# Altium schematic symbol library Nosrati.SchLib: 192 symbols (part 2 of 3)
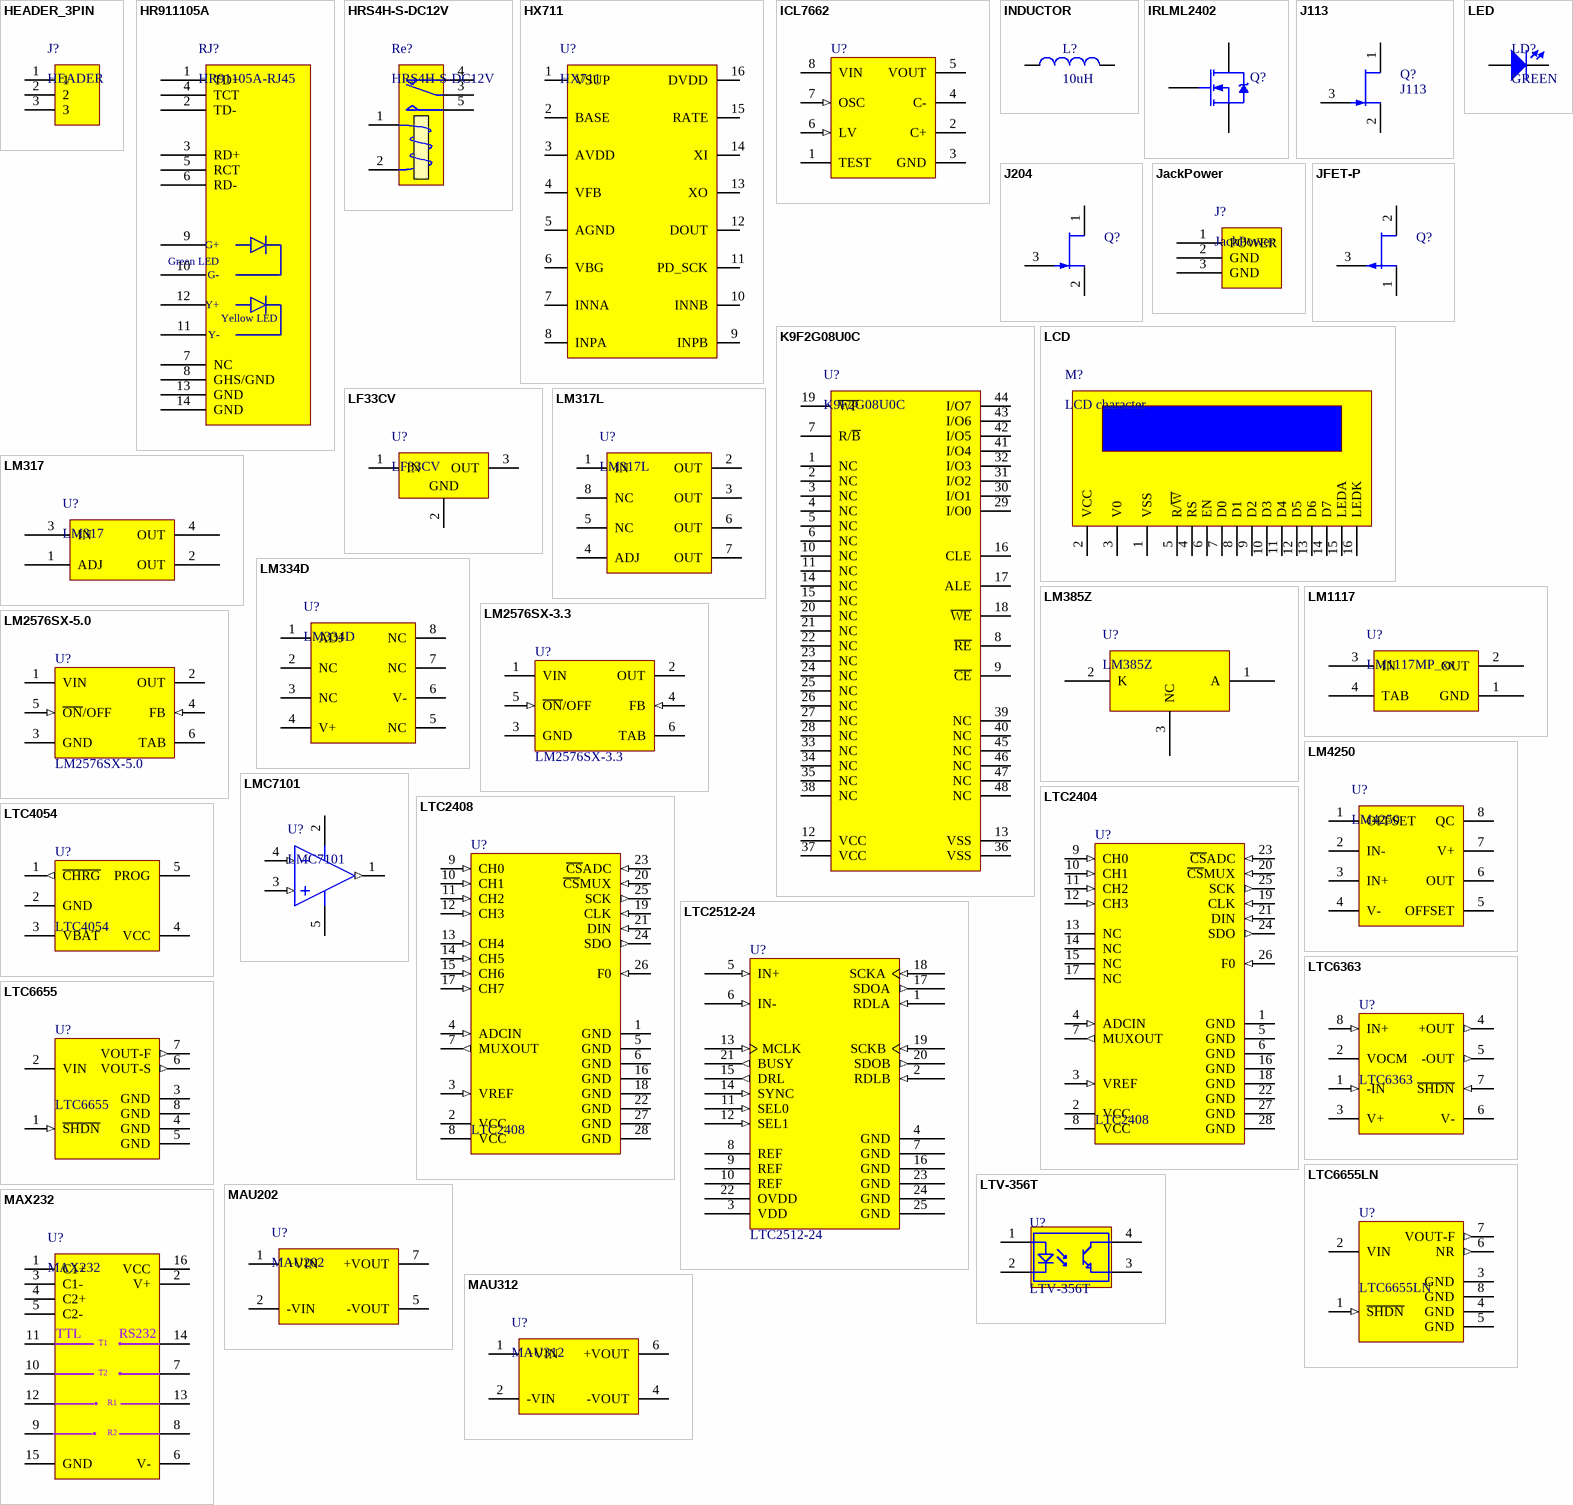
[diagram p6: symbols HEADER_3PIN to MAX232]

## LM2576SX-5.0
designator U?
SIMPLE SWITCHER® 3A Step-Down Voltage Regulator, 5-pin TO-263; Manufacturer: National Semiconductor; PackageTopMarking: NSUZXYTTE#*LM2576S*-5.0 P+; PowerWise: N; Published: 1-Mar-2010; DatasheetVersion: Aug-2004; PackageVersion: revD, Apr-2005; PackageReference: TS5B; Publisher: Altium Limited; PackageDescription: TO-263, Molded, .400 x .390 x .180in, 5 Lead, .067in Pitch, Surface Mount; PartNumber: LM2576SX-5.0; RoHS: N; PinCount: 5; CompType: Switcher; Code_JEDEC: MO-169-AB; ComponentLink1Description: LM2576 Datasheet; ComponentLink1URL: http://www.national.com/ds/LM/LM2576.pdf; ComponentLink2Description: LM2576 Web Page; ComponentLink2URL: http://www.national.com/pf/LM/LM2576.html; ComponentLink3Description: TS5B Package Page; ComponentLink3URL: http://www.national.com/packaging/folders/ts5b.html
footprint TO263_5
footprint TS5B_M
pins: 1 VIN (power), 2 OUT (power), 3 GND (power), 4 FB (in), 5 ~{ON}/OFF (in), 6 TAB (power)

## LM4250
designator U?
Programmable operational amplifier
footprint DIP8
pins: 1 OFFSET, 2 IN-, 3 IN+ (power), 4 V-, 5 OFFSET (power), 6 OUT (power), 7 V+ (power), 8 QC (power)

## LMC7101
designator U?
Tiny Low-Power Operational Amplifier / With Rail-to-Rail Input and Output; Manufacturer: Texas Instruments; PartNumber: OPA313IDBVR; CMRR(Min)(dB): 70; Eco-Plan: Green (RoHS & no Sb/Br); GBW(Typ)(MHz): 1; Iq per channel(Max)(mA): 0.06; Offset Drift(Typ)(uV/C): 2; Packing: LARGE T&R; Rating: Catalog; Slew Rate(Typ)(V/us): 0.5; SubFamily: Low Input Bias Current Amp (<=10pA), Low Power Amp (<=500uA); Total Supply Voltage(Max)(+5V is 5, +/-5V is 10): 5.5; Total Supply Voltage(Min)(+5V is 5, +/-5V is 10): 1.8; Vio (25C)(Max)(mV): 2.5; DatasheetVersion: SBOS649C; PackageVersion: 4073253-4/K, 03/2006; PackageReference: DBV5; PackageDescription: 5-Pin Plastic Small Outline, Body 1.6 x 2.9 mm, Pitch 0.95 mm; Supplier 1: Digi-Key; Supplier Part Number 1: 296-35607-2-ND; Supplier 2: Digi-Key; Supplier Part Number 2: 296-35607-1-ND; Supplier 3: Digi-Key; Supplier Part Number 3: 296-35607-6-ND; Supplier 4: Newark; Supplier Part Number 4: 55W7047; Supplier 5: Mouser; Supplier Part Number 5: 595-OPA313IDBVR; Number of Channels: 1; Mounting Technology: Surface Mount; Code_JEDEC: MO-178; ComponentLink1Description: Manufacturer URL; ComponentLink1URL: http://www.ti.com/; ComponentLink2Description: Datasheet; ComponentLink2URL: http://www.ti.com/lit/ds/symlink/opa313.pdf; ComponentLink3Description: Package Specification; ComponentLink3URL: http://www.ti.com/litv/pdf/mpds018i
footprint SOT23-5_L
footprint SOT23-5_M
footprint SOT23-5_N
pins: 1 OUT (out) "Output", 2 V+ (power) "Positive Supply", 3 IN+ (in) "Noninverting Input", 4 IN- (in) "Inverting Input", 5 V- (power) "Negative Supply"

## LTC2404
designator U?, comment LTC2408
4 Channel 24-Bit µPower / No Latency ∆ΣTM ADCs; Generic Part Number: AD7190; Manufacturer: Analog Devices; PartNumber: AD7190BRUZ; Resolution (Bits): 24; Channels: 4; Throughput Rate (SPS): 4.8K; Interface: Ser, SPI; Packing: Tube; DatasheetVersion: Rev.B; PackageVersion: 2002; PackageReference: RU-24; PackageDescription: 24-Lead Thin Shrink Small Outline Package [TSSOP]; Supplier 1: Digi-Key; Supplier Part Number 1: AD7190BRUZ-ND; Supplier 2: Farnell; Supplier Part Number 2: 2305548; Supplier 3: Newark; Supplier Part Number 3: 34P3182; Supplier 4: Mouser; Supplier Part Number 4: 584-AD7190BRUZ; RoHS: Y; Mounting Technology: Surface Mount; Code_JEDEC: MO-153-AD; ComponentLink1Description: Manufacturer URL; ComponentLink1URL: http://www.analog.com/en/index.html; ComponentLink2Description: Datasheet; ComponentLink2URL: http://www.analog.com/static/imported-files/data_sheets/AD7190.pdf; ComponentLink3Description: Package Specification; ComponentLink3URL: http://www.analog.com/static/imported-files/packages/380523655245964505593671154107510036154RU24.pdf; ComponentLink4Description: Product URL; ComponentLink4URL: http://www.analog.com/en/analog-to-digital-converters/ad-converters/ad7190/products/product.html
footprint SSOP-28_L (SOP, 28-Leads, Body 10.2x5.3mm, Pitch 0.65mm, IPC High Density)
footprint SSOP-28_M (SOP, 28-Leads, Body 10.2x5.3mm, Pitch 0.65mm, IPC Low Density)
footprint SSOP-28_N (SOP, 28-Leads, Body 10.2x5.3mm, Pitch 0.65mm, IPC Medium Density)
pins: 1 GND (power) "Ground. Should be", 2 VCC (power) "Positive Supply Voltage. 2.7V ≤ VCC ≤", 3 VREF (in) "Reference Input. The reference voltage range", 4 ADCIN (in) "Analog Input.", 5 GND (power) "Ground. Should be", 6 GND (power) "Ground. Should be", 7 MUXOUT (out) "MUX Output.", 8 VCC (power) "Positive Supply Voltage. 2.7V ≤ VCC ≤", 9 CH0 (in) "Analog Multiplexer Input.", 10 CH1 (in) "Analog Multiplexer Input.", 11 CH2 (in) "Analog Multiplexer Input.", 12 CH3 (in) "Analog Multiplexer Input.", 13 NC "No Internal Connection", 14 NC "No Internal Connection", 15 NC "No Internal Connection", 16 GND (power) "Ground. Should be", 17 NC "No Internal Connection", 18 GND (power) "Ground. Should be", 19 CLK (in) "Shift Clock for Data In.", 20 ~{CS}MUX (in) "MUX Chip Select Input.", 21 DIN (in) "Digital Data Input.", 22 GND (power) "Ground. Should be", 23 ~{CS}ADC (in) "ADC Chip Select Input.", 24 SDO (out) "Three-State Digital Output", 25 SCK (out) "Shift Clock for Data Out", 26 F0 (in) "Digital input which controls the ADC’s notch frequencies and conversion time", 27 GND (power) "Ground. Should be", 28 GND (power) "Ground. Should be"

## LTC2408
designator U?
8-Channel 24-Bit µPower / No Latency ∆ΣTM ADCs; Generic Part Number: AD7190; Manufacturer: Analog Devices; PartNumber: AD7190BRUZ; Resolution (Bits): 24; Channels: 4; Throughput Rate (SPS): 4.8K; Interface: Ser, SPI; Packing: Tube; DatasheetVersion: Rev.B; PackageVersion: 2002; PackageReference: RU-24; PackageDescription: 24-Lead Thin Shrink Small Outline Package [TSSOP]; Supplier 1: Digi-Key; Supplier Part Number 1: AD7190BRUZ-ND; Supplier 2: Farnell; Supplier Part Number 2: 2305548; Supplier 3: Newark; Supplier Part Number 3: 34P3182; Supplier 4: Mouser; Supplier Part Number 4: 584-AD7190BRUZ; RoHS: Y; Mounting Technology: Surface Mount; Code_JEDEC: MO-153-AD; ComponentLink1Description: Manufacturer URL; ComponentLink1URL: http://www.analog.com/en/index.html; ComponentLink2Description: Datasheet; ComponentLink2URL: http://www.analog.com/static/imported-files/data_sheets/AD7190.pdf; ComponentLink3Description: Package Specification; ComponentLink3URL: http://www.analog.com/static/imported-files/packages/380523655245964505593671154107510036154RU24.pdf; ComponentLink4Description: Product URL; ComponentLink4URL: http://www.analog.com/en/analog-to-digital-converters/ad-converters/ad7190/products/product.html
footprint SSOP-28_L (SOP, 28-Leads, Body 10.2x5.3mm, Pitch 0.65mm, IPC High Density)
footprint SSOP-28_M (SOP, 28-Leads, Body 10.2x5.3mm, Pitch 0.65mm, IPC Low Density)
footprint SSOP-28_N (SOP, 28-Leads, Body 10.2x5.3mm, Pitch 0.65mm, IPC Medium Density)
pins: 1 GND (power) "Ground. Should be", 2 VCC (power) "Positive Supply Voltage. 2.7V ≤ VCC ≤", 3 VREF (in) "Reference Input. The reference voltage range", 4 ADCIN (in) "Analog Input. The input voltage range is", 5 GND (power) "Ground. Should be", 6 GND (power) "Ground. Should be", 7 MUXOUT (out) "MUX Output. This pin is the output of the", 8 VCC (power) "Positive Supply Voltage. 2.7V ≤ VCC ≤", 9 CH0 (in) "Analog Multiplexer Input.", 10 CH1 (in) "Analog Multiplexer Input.", 11 CH2 (in) "Analog Multiplexer Input.", 12 CH3 (in) "Analog Multiplexer Input.", 13 CH4 (in) "Analog Multiplexer Input.", 14 CH5 (in) "Analog Multiplexer Input.", 15 CH6 (in) "Analog Multiplexer Input.", 16 GND (power) "Ground. Should be", 17 CH7 (in) "Analog Multiplexer Input.", 18 GND (power) "Ground. Should be", 19 CLK (in) "Shift Clock for Data In.", 20 ~{CS}MUX (in) "MUX Chip Select Input.", 21 DIN (in) "Digital Data Input.", 22 GND (power) "Ground. Should be", 23 ~{CS}ADC (in) "ADC Chip Select Input.", 24 SDO (out) "Three-State Digital Output", 25 SCK (out) "Shift Clock for Data Out", 26 F0 (in) "Digital input which controls the ADC’s notch frequencies and conversion time", 27 GND (power) "Ground. Should be", 28 GND (power) "Ground. Should be"

## LTC2512-24
designator U?
24-Bit Over-Sampling ADC with Configurable Flat Passband Digital Filter. SAR; Generic Part Number: AD7190; Manufacturer: Analog Devices; PartNumber: AD7190BRUZ; Resolution (Bits): 24; Channels: 4; Throughput Rate (SPS): 4.8K; Interface: Ser, SPI; Packing: Tube; DatasheetVersion: Rev.B; PackageVersion: 2002; PackageReference: RU-24; PackageDescription: 24-Lead Thin Shrink Small Outline Package [TSSOP]; Supplier 1: Digi-Key; Supplier Part Number 1: AD7190BRUZ-ND; Supplier 2: Farnell; Supplier Part Number 2: 2305548; Supplier 3: Newark; Supplier Part Number 3: 34P3182; Supplier 4: Mouser; Supplier Part Number 4: 584-AD7190BRUZ; RoHS: Y; Mounting Technology: Surface Mount; Code_JEDEC: MO-153-AD; ComponentLink1Description: Manufacturer URL; ComponentLink1URL: http://www.analog.com/en/index.html; ComponentLink2Description: Datasheet; ComponentLink2URL: http://www.analog.com/static/imported-files/data_sheets/AD7190.pdf; ComponentLink3Description: Package Specification; ComponentLink3URL: http://www.analog.com/static/imported-files/packages/380523655245964505593671154107510036154RU24.pdf; ComponentLink4Description: Product URL; ComponentLink4URL: http://www.analog.com/en/analog-to-digital-converters/ad-converters/ad7190/products/product.html
footprint DFN24 (24-Lead plastic DFN (7mm*4mm))
pins: 1 RDLA (in) "Read Low Input A (Filtered Output). RDLA:LOW -> SDOA:EN", 2 RDLB (in) "Read Low Input B (No Latency Output). RDLB:LOW -> SDOB:EN", 3 VDD (power) "2.5V Power Supply. Bypass VDD to GND with a 10μF ceramic capacitor.", 4 GND (power) "Ground.", 5 IN+ (in) "Positive Analog Input.", 6 IN- (in) "Negative Analog Input.", 7 GND (power) "Ground.", 8 REF "Reference Input. decoupled closely to the pin with a 47μF ceramic capacitor (X7R, 1210 size, 10V rating).", 9 REF "Reference Input. decoupled closely to the pin with a 47μF ceramic capacitor (X7R, 1210 size, 10V rating).", 10 REF "Reference Input. decoupled closely to the pin with a 47μF ceramic capacitor (X7R, 1210 size, 10V rating).", 11 SEL0 (in) "Down-Sampling Factor Select Input 0.", 12 SEL1 (in) "Down-Sampling Factor Select Input 1.", 13 MCLK (in) "Master Clock Input.", 14 SYNC (in) "Synchronization Input.", 15 DRL (out) "Data Ready Low Output.", 16 GND (power) "Ground.", 17 SDOA (out) "Serial Data Output A (Filtered Output).", 18 SCKA (in) "Serial Data Clock Input A (Filtered Output).", 19 SCKB (in) "Serial Data Clock Input B (No Latency Output).", 20 SDOB (out) "Serial Data Output B (No Latency Output).", 21 BUSY (out) "BUSY Indicator.", 22 OVDD (power) "I/O Interface Digital Power.", 23 GND (power) "Ground.", 24 GND (power) "Ground.", 25 GND (power) "Ground."

## LTC4054
designator U?
Standalone Linear Li-Ion Battery Charger with Thermal Regulation in  thinSOT; DatasheetVersion: revB, Nov-2002; PackageVersion: revBB, Aug-2009; PackageReference: SOIC-OA8; PackageDescription: 8-Lead Plastic Small Outline (OA) - Narrow, 3.90mm Body [SOIC]; Code_IPC: SOIC127P600-8; ComponentLink1Description: Manufacturer URL; ComponentLink1URL: http://www.microchip.com/; ComponentLink2Description: Datasheet; ComponentLink2URL: http://ww1.microchip.com/downloads/en/DeviceDoc/21465b.pdf; ComponentLink3Description: Package Specification; ComponentLink3URL: http://www.microchip.com/stellent/groups/techpub_sg/documents/packagingspec/en012702.pdf
footprint TSOT23-5_L
footprint TSOT23-5_M
footprint TSOT23-5_N
pins: 1 ~{CHRG} (out) "Open-Drain Charge Status Output.", 2 GND "Ground", 3 VBAT (power) "Charge Current Output.", 4 VCC (power) "Positive Input Supply Voltage.", 5 PROG "Charge Current Program."

## LTC6363
designator U?
Precision, Low Power Differential Amplifier/ADC Driver Family; DatasheetVersion: revB, Nov-2002; PackageVersion: revBB, Aug-2009; PackageReference: SOIC-OA8; PackageDescription: 8-Lead Plastic Small Outline (OA) - Narrow, 3.90mm Body [SOIC]; Code_IPC: SOIC127P600-8; ComponentLink1Description: Manufacturer URL; ComponentLink1URL: http://www.microchip.com/; ComponentLink2Description: Datasheet; ComponentLink2URL: http://ww1.microchip.com/downloads/en/DeviceDoc/21465b.pdf; ComponentLink3Description: Package Specification; ComponentLink3URL: http://www.microchip.com/stellent/groups/techpub_sg/documents/packagingspec/en012702.pdf
footprint MSOP-8
pins: 1 -IN (in) "Inverting Input of Amplifier.", 2 VOCM "Output Common Mode Reference Voltage.", 3 V+ (power) "Positive Power Supply.", 4 +OUT (out) "Positive Output Pin.", 5 -OUT (out) "Negative Output Pin.", 6 V- (power) "Negative Power Supply.", 7 ~{SHDN} (in) "Shutdown Input.", 8 IN+ (in) "Noninverting Input of Amplifier."

## LTC6655
designator U?
0.25ppm Noise, Low Drift Precision References; DatasheetVersion: revB, Nov-2002; PackageVersion: revBB, Aug-2009; PackageReference: SOIC-OA8; PackageDescription: 8-Lead Plastic Small Outline (OA) - Narrow, 3.90mm Body [SOIC]; Code_IPC: SOIC127P600-8; ComponentLink1Description: Manufacturer URL; ComponentLink1URL: http://www.microchip.com/; ComponentLink2Description: Datasheet; ComponentLink2URL: http://ww1.microchip.com/downloads/en/DeviceDoc/21465b.pdf; ComponentLink3Description: Package Specification; ComponentLink3URL: http://www.microchip.com/stellent/groups/techpub_sg/documents/packagingspec/en012702.pdf
footprint MSOP-8
pins: 1 ~{SHDN} (in) "Shutdown Input.", 2 VIN (power) "Power Supply.", 3 GND (power) "Internal Function.", 4 GND (power) "Device Ground.", 5 GND (power) "Internal Function.", 6 VOUT-S (out) "VOUT Sense Pin.", 7 VOUT-F (out) "V OUT Force Pin.", 8 GND (power) "Internal Function."

## LTC6655LN
designator U?
0.25ppm Noise, Low Drift Precision References; DatasheetVersion: revB, Nov-2002; PackageVersion: revBB, Aug-2009; PackageReference: SOIC-OA8; PackageDescription: 8-Lead Plastic Small Outline (OA) - Narrow, 3.90mm Body [SOIC]; Code_IPC: SOIC127P600-8; ComponentLink1Description: Manufacturer URL; ComponentLink1URL: http://www.microchip.com/; ComponentLink2Description: Datasheet; ComponentLink2URL: http://ww1.microchip.com/downloads/en/DeviceDoc/21465b.pdf; ComponentLink3Description: Package Specification; ComponentLink3URL: http://www.microchip.com/stellent/groups/techpub_sg/documents/packagingspec/en012702.pdf
footprint MSOP-8
pins: 1 ~{SHDN} (in) "Shutdown Input.", 2 VIN (power) "Power Supply.", 3 GND (power) "Internal Function.", 4 GND (power) "Device Ground.", 5 GND (power) "Internal Function.", 6 NR (out) "Noise Reduction Pin.", 7 VOUT-F (out) "V OUT  Pin.", 8 GND (power) "Internal Function."

## LTV-356T
designator U?
Transistor Output Optocouplers P/C LTV-356T; Designer: Seyed Mohsen Ghasemian; E-mail: picpars@gmail.com; Published: 17-11-2011; LatestRevisionDate: 17-11-2011; Publisher: www.picpars.com; WEB: www.picpars.com
footprint SOP-4-2.54
pins: 1 A, 2 K, 3 E, 4 C

## MAU202
designator U?
DC-DC CONVERTER 1W, SIP-Package, High Isolation; Manufacturer: Texas Instruments; PartNumber: SN65HVD230D; Eco-Plan: Green (RoHS & no Sb/Br); SubFamily: CAN; Drivers Per Package: 1; Isolated: No; Transient Pulse Protection(V): -25 to 25; Low Power Mode: Standby; ICC(Max)(mA): 17; Supply Voltage(s)(V): 3.3; Rating: Catalog; DatasheetVersion: SLOS346K; PackageVersion: revM, Jun-2011; PackageReference: D8; PackageDescription: 8-Pin Plastic Small Outline Integrated Circuit, 4.9 x 3.9 mm, Pitch 1.27 mm Pitch; Supplier 1: Digi-Key; Supplier Part Number 1: SN65HVD230D-ND; Supplier 2: Farnell; Supplier Part Number 2: 1103105; Supplier 3: Newark; Supplier Part Number 3: 75C7744; Supplier 4: Mouser; Supplier Part Number 4: 595-SN65HVD230D; Receivers Per Package: 1; Footprint: PCA82C250; Mounting Technology: Surface Mount; Code_JEDEC: MS-012AA; ComponentLink1Description: Datasheet; ComponentLink1URL: http://www.ti.com/general/docs/lit/getliterature.tsp?genericPartNumber=SN65HVD230&fileType=pdf
footprint SIP7 (4) 5V&12V IN (MAU200)
pins: 1 +VIN, 2 -VIN, 5 -VOUT, 7 +VOUT

## MAU312
designator U?
DC-DC CONVERTER 2W, SIP-Package, High Isolation; Manufacturer: Texas Instruments; PartNumber: SN65HVD230D; Eco-Plan: Green (RoHS & no Sb/Br); SubFamily: CAN; Drivers Per Package: 1; Isolated: No; Transient Pulse Protection(V): -25 to 25; Low Power Mode: Standby; ICC(Max)(mA): 17; Supply Voltage(s)(V): 3.3; Rating: Catalog; DatasheetVersion: SLOS346K; PackageVersion: revM, Jun-2011; PackageReference: D8; PackageDescription: 8-Pin Plastic Small Outline Integrated Circuit, 4.9 x 3.9 mm, Pitch 1.27 mm Pitch; Supplier 1: Digi-Key; Supplier Part Number 1: SN65HVD230D-ND; Supplier 2: Farnell; Supplier Part Number 2: 1103105; Supplier 3: Newark; Supplier Part Number 3: 75C7744; Supplier 4: Mouser; Supplier Part Number 4: 595-SN65HVD230D; Receivers Per Package: 1; Footprint: PCA82C250; Mounting Technology: Surface Mount; Code_JEDEC: MS-012AA; ComponentLink1Description: Datasheet; ComponentLink1URL: http://www.ti.com/general/docs/lit/getliterature.tsp?genericPartNumber=SN65HVD230&fileType=pdf
footprint SIP7 (4) 5V&12V IN (MAU300)
pins: 1 +VIN, 2 -VIN, 4 -VOUT, 6 +VOUT

## MAX232
designator U?
+5V Powered, Multi-Channel RS-232 Driver/Receiver; ComponentAuthor: Saeid Jorablo; ComponentLink1Description: Datasheet; ComponentLink1URL: http://pdfserv.maxim-ic.com/en/ds/MAX220-MAX249.pdf
footprint SOP-16
footprint SOIC16_L (SOIC, 16-Leads, Body 9.9x3.9mm, Pitch 1.27mm)
footprint SOIC16_M (SOIC, 16-Leads, Body 9.9x3.9mm, Pitch 1.27mm)
footprint SOIC16_N (SOIC, 16-Leads, Body 9.9x3.9mm, Pitch 1.27mm)
pins: 1 C1+ "Positive lead of C1 capacitor", 2 V+ "Positive charge pump output for storage capacitor only", 3 C1- "Negative lead of C1 capacitor", 4 C2+ "Positive lead of C2 capacitor", 5 C2- "Negative lead of C2 capacitor", 6 V- "Negative charge pump output for storage capacitor only", 7 T2OUT "RS232 line data output (to remote RS232 system)", 8 R2IN "RS232 line data input (from remote RS232 system)", 9 R2OUT "Logic data output (to UART)", 10 T2IN "Logic data input (from UART)", 11 T1IN "Logic data input (from UART)", 12 R1OUT "Logic data output (to UART)", 13 R1IN "RS232 line data input (from remote RS232 system)", 14 T1OUT "RS232 line data output (to remote RS232 system)", 15 GND (power) "Ground", 16 VCC (power) "Supply Voltage, Connect to external 5V power supply"
text: TTL; RS232; T1; T2; R1; R2

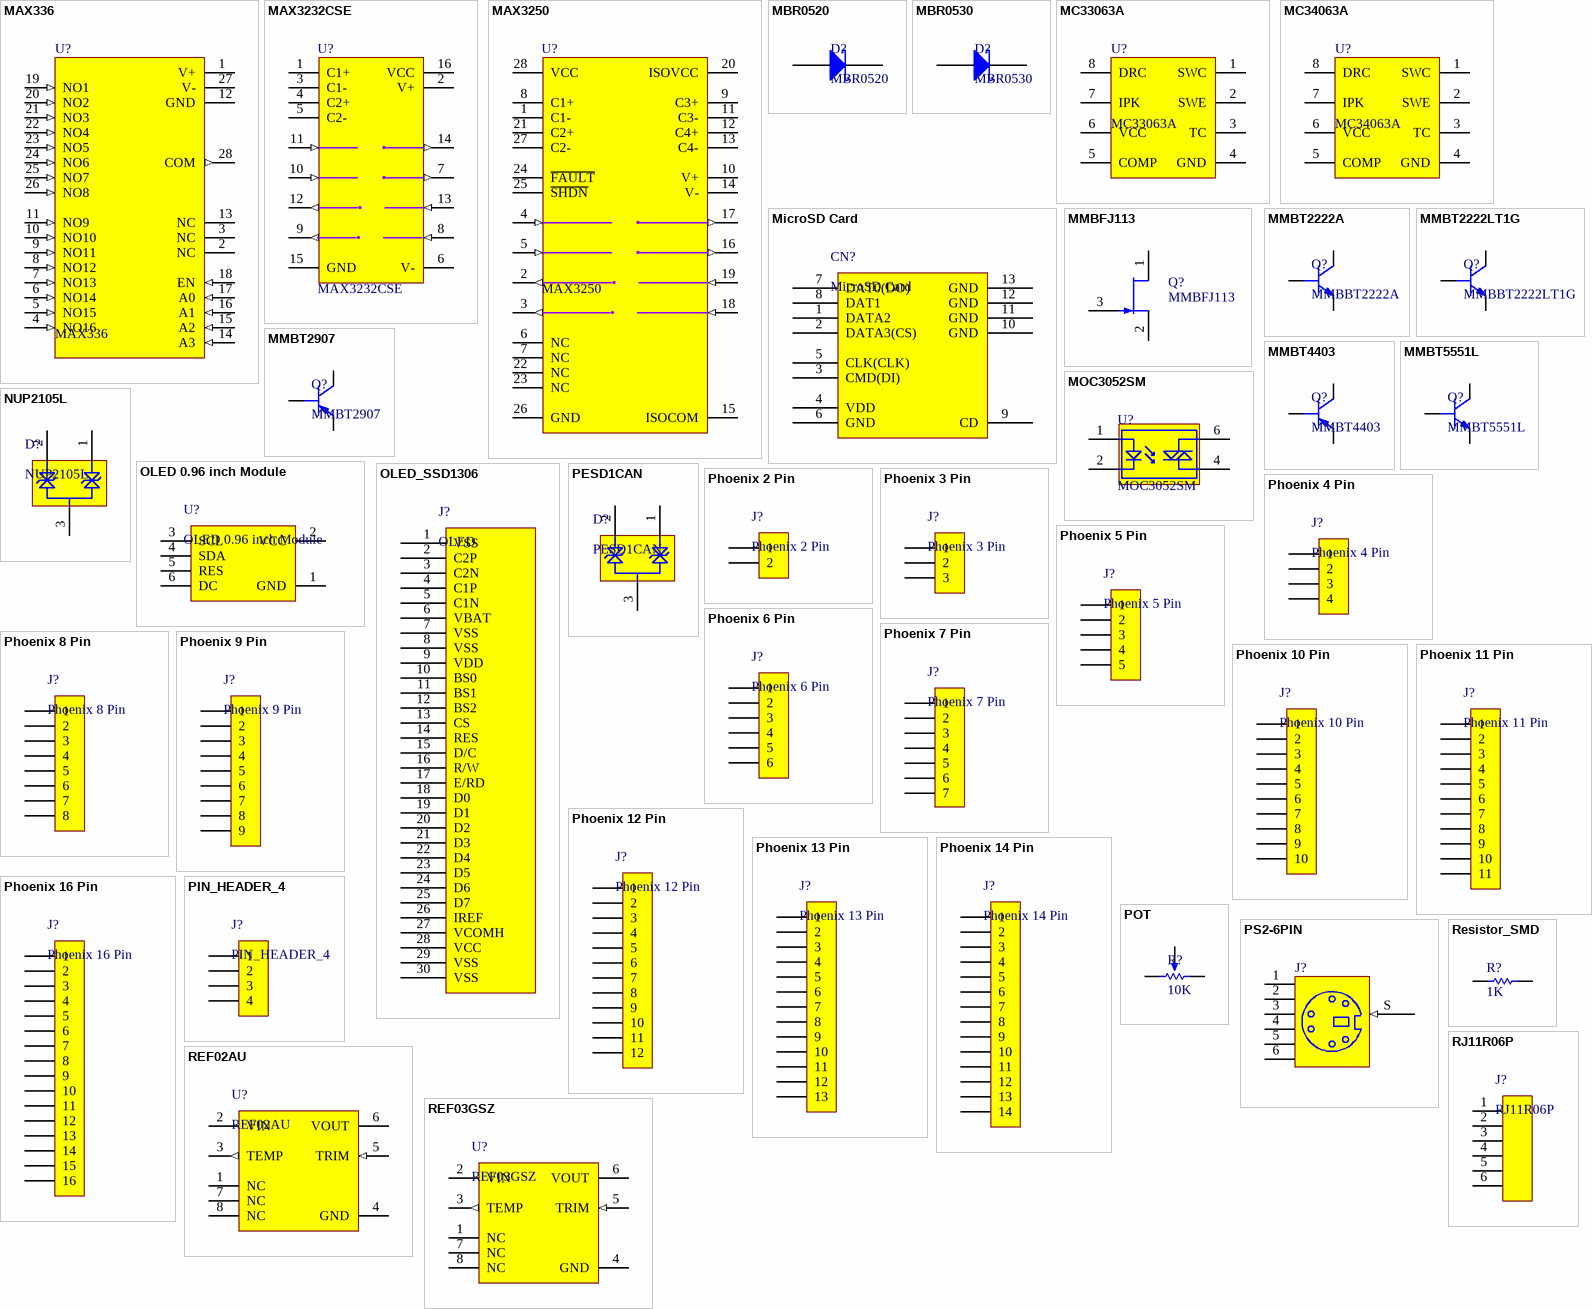
[diagram p3: symbols MAX336 to RJ11R06P]

## MAX336
designator U?
16-Channel/Dual 8-Channel, / Low-Leakage, CMOS Analog Multiplexers; Generic Part Number: AD7190; Manufacturer: Analog Devices; PartNumber: AD7190BRUZ; Resolution (Bits): 24; Channels: 4; Throughput Rate (SPS): 4.8K; Interface: Ser, SPI; Packing: Tube; DatasheetVersion: Rev.B; PackageVersion: 2002; PackageReference: RU-24; PackageDescription: 24-Lead Thin Shrink Small Outline Package [TSSOP]; Supplier 1: Digi-Key; Supplier Part Number 1: AD7190BRUZ-ND; Supplier 2: Farnell; Supplier Part Number 2: 2305548; Supplier 3: Newark; Supplier Part Number 3: 34P3182; Supplier 4: Mouser; Supplier Part Number 4: 584-AD7190BRUZ; RoHS: Y; Mounting Technology: Surface Mount; Code_JEDEC: MO-153-AD; ComponentLink1Description: Manufacturer URL; ComponentLink1URL: http://www.analog.com/en/index.html; ComponentLink2Description: Datasheet; ComponentLink2URL: http://www.analog.com/static/imported-files/data_sheets/AD7190.pdf; ComponentLink3Description: Package Specification; ComponentLink3URL: http://www.analog.com/static/imported-files/packages/380523655245964505593671154107510036154RU24.pdf; ComponentLink4Description: Product URL; ComponentLink4URL: http://www.analog.com/en/analog-to-digital-converters/ad-converters/ad7190/products/product.html
footprint SSOP-28_L (SOP, 28-Leads, Body 10.2x5.3mm, Pitch 0.65mm, IPC High Density)
footprint SSOP-28_M (SOP, 28-Leads, Body 10.2x5.3mm, Pitch 0.65mm, IPC Low Density)
footprint SSOP-28_N (SOP, 28-Leads, Body 10.2x5.3mm, Pitch 0.65mm, IPC Medium Density)
pins: 1 V+ (power) "Positive Supply-Voltage Input", 2 NC "No Internal Connection", 3 NC "No Internal Connection", 4 NO16 (in) "Analog Signal Inputs", 5 NO15 (in) "Analog Signal Inputs", 6 NO14 (in) "Analog Signal Inputs", 7 NO13 (in) "Analog Signal Inputs", 8 NO12 (in) "Analog Signal Inputs", 9 NO11 (in) "Analog Signal Inputs", 10 NO10 (in) "Analog Signal Inputs", 11 NO9 (in) "Analog Signal Inputs", 12 GND (power) "Analog Input. It can be configured as the negative input of a fully differential input pair when used with AIN1 or as a pseudo differential input when used with AINCOM.", 13 NC "No Internal Connection", 14 A3 (in) "Logic Address Input", 15 A2 (in) "Logic Address Input", 16 A1 (in) "Logic Address Input", 17 A0 (in) "Logic Address Input", 18 EN (in) "Logic Enable Input", 19 NO1 (in) "Analog Signal Inputs", 20 NO2 (in) "Analog Signal Inputs", 21 NO3 (in) "Analog Signal Inputs", 22 NO4 (in) "Analog Signal Inputs", 23 NO5 (in) "Analog Signal Inputs", 24 NO6 (in) "Analog Signal Inputs", 25 NO7 (in) "Analog Signal Inputs", 26 NO8 (in) "Analog Signal Inputs", 27 V- (power) "Negative Supply-Voltage Input (Connect to GND for single supply operation)", 28 COM (out) "Analog Signal Output"

## MAX3232CSE
designator U?
3.0V TO 5.5V, Low-Power, up to 1Mbps, True RS-232 Transceiver Using Four 0.1µF External Capacitor; Published: 16-Jan-2001; LatestRevisionDate: 13-Apr-2006; LatestRevisionNote: IPC-7351 Footprint Added.; DatasheetVersion: Mar-1999; PackageReference: NSO16; Publisher: Altium Limited; PackageDescription: 16-Pin Small Outline Integrated Circuit 1.27 mm Pitch; Code_JEDEC: MS-012-AC; Code_IPC: SOIC127P600-16; ComponentLink1Description: Manufacturer Link; ComponentLink1URL: http://www.maxim-ic.com/; ComponentLink2Description: Datasheet; ComponentLink2URL: http://pdfserv.maxim-ic.com/en/ds/MAX3222-MAX3241.pdf
footprint SOIC16_M (SOIC, 16-Leads, Body 9.9x3.9mm, Pitch 1.27mm)
footprint SOIC16_N (SOIC, 16-Leads, Body 9.9x3.9mm, Pitch 1.27mm)
footprint SOIC16_L (SOIC, 16-Leads, Body 9.9x3.9mm, Pitch 1.27mm)
pins: 1 C1+, 2 V+ (power), 3 C1-, 4 C2+, 5 C2-, 6 V- (power), 7 T2OUT (out), 8 R2IN (in), 9 R2OUT (out), 10 T2IN (in), 11 T1IN (in), 12 R1OUT (out), 13 R1IN (in), 14 T1OUT (out), 15 GND (power), 16 VCC (power)

## MAX3250
designator U?
±50V Isolated, 3.0V to .5V, 250kbps, 2 Tx/2 Rx, RS-232 Transceiver; Published: 16-Jan-2001; LatestRevisionDate: 13-Apr-2006; LatestRevisionNote: IPC-7351 Footprint Added.; DatasheetVersion: Mar-1999; PackageReference: NSO16; Publisher: Altium Limited; PackageDescription: 16-Pin Small Outline Integrated Circuit 1.27 mm Pitch; Code_JEDEC: MS-012-AC; Code_IPC: SOIC127P600-16; ComponentLink1Description: Manufacturer Link; ComponentLink1URL: http://www.maxim-ic.com/; ComponentLink2Description: Datasheet; ComponentLink2URL: http://pdfserv.maxim-ic.com/en/ds/MAX3222-MAX3241.pdf
footprint SSOP-28_L (SOP, 28-Leads, Body 10.2x5.3mm, Pitch 0.65mm, IPC High Density)
footprint SSOP-28_M (SOP, 28-Leads, Body 10.2x5.3mm, Pitch 0.65mm, IPC Low Density)
footprint SSOP-28_N (SOP, 28-Leads, Body 10.2x5.3mm, Pitch 0.65mm, IPC Medium Density)
pins: 1 C1- "Negative Terminal of the Power Isolation Capacitor.  Connect a 100V capacitor from C1- to C1+.", 2 R1OUT (out) "TTL/CMOS Receiver Output", 3 R2OUT (out) "TTL/CMOS Receiver Output", 4 T1IN (in) "TTL/CMOS Transmitter Input", 5 T2IN (in) "TTL/CMOS Transmitter Input", 6 NC "No Connection. Not internally connected.", 7 NC "No Connection. Leave unconnected or connect to ISOCOM.", 8 C1+ "Positive Terminal of the Power Isolation Capacitor. Connect a 100V capacitor from C1+ to C1-.", 9 C3+ "Positive Terminal of the Voltage-Doubler Charge-Pump Capacitor. Connect a 0.1µF capacitor from C3+ to C3-.", 10 V+ (power) "+5.5V Generated by the Charge Pump, Referenced to ISOCOM. Bypass V+ to ISOCOM with a 0.47µF capacitor.", 11 C3- "Negative Terminal of the Voltage-Doubler Charge-Pump Capacitor. Connect a 0.1µF capacitor from C3- to C3+.", 12 C4+ "Positive Terminal of the Inverting Charge-Pump Capacitor. Connect a 0.47µF capacitor from C4+ to C4-.", 13 C4- "Negative Terminal of the Inverting Charge-Pump Capacitor. Connect a 0.47µF capacitor from C4- to C4+.", 14 V- (power) "-5.5V Generated by the Charge Pump, Referenced to ISOCOM. Bypass V- to ISOCOM with a 0.47µF capacitor.", 15 ISOCOM (power) "Isolated Ground", 16 T2OUT (out) "RS-232 Transmitter Output", 17 T1OUT (out) "RS-232 Transmitter Output", 18 R2IN (in) "RS-232 Receiver Input", 19 R1IN (in) "RS-232 Receiver Input", 20 ISOVCC (power) "Internally Generated Isolated Power-Supply Voltage, Referenced to ISOCOM. Bypass ISOVCC to ISOCOM with a 2.2µF capacitor.", 21 C2+ "Positive Terminal of the Power Isolation Capacitor. Connect a 100V capacitor from C2+ to C2-.", 22 NC "No Connection. Not internally connected.", 23 NC "No Connection. Not internally connected.", 24 ~{FAULT} "Overvoltage Indicator. Active low, open drain.", 25 ~{SHDN} "Shutdown Control. Drive SHDN low to enter low-power shutdown mode. Drive SHDN high or connect to VCC for normal operation.", 26 GND (power) "Ground.", 27 C2- "Negative Terminal of the Power Isolation Capacitor. Connect a 100V capacitor from C2- to C2+.", 28 VCC (power) "3.0V to 5.5V Supply Voltage. Bypass VCC to GND with a 1µF capacitor."

## MBR0520
designator D?
footprint SOD-123
pins: 1 A, 2 K

## MBR0530
designator D?
footprint SOD-123
pins: 1 A, 2 K

## MC33063A
designator U?
Inverting Regulator - Buck,  Boost, Switching, 1.5A , −40 to +125 /; DatasheetVersion: revB, Nov-2002; PackageVersion: revBB, Aug-2009; PackageReference: SOIC-OA8; PackageDescription: 8-Lead Plastic Small Outline (OA) - Narrow, 3.90mm Body [SOIC]; Code_IPC: SOIC127P600-8; ComponentLink1Description: Manufacturer URL; ComponentLink1URL: http://www.microchip.com/; ComponentLink2Description: Datasheet; ComponentLink2URL: http://ww1.microchip.com/downloads/en/DeviceDoc/21465b.pdf; ComponentLink3Description: Package Specification; ComponentLink3URL: http://www.microchip.com/stellent/groups/techpub_sg/documents/packagingspec/en012702.pdf
footprint SOIC8_N (SOIC, 8-Leads, Body 4.9x3.9mm, Pitch 1.27mm, IPC Medium Density)
footprint SOIC8_M (SOIC, 8-Leads, Body 4.9x3.9mm, Pitch 1.27mm, IPC Low Density)
footprint SOIC8
footprint SOIC8_L (SOIC, 8-Leads, Body 4.9x3.9mm, Pitch 1.27mm, IPC High Density)
pins: 1 SWC "Switch Collector.", 2 SWE "Switch EmitTer", 3 TC "Timing Capacitor", 4 GND (power) "Ground", 5 COMP "Comparator Inverting Input", 6 VCC (power), 7 IPK "Ipk Sense", 8 DRC "Drive Collector"

## MC34063A
designator U?
Inverting Regulator - Buck,  Boost, Switching, 1.5A , 0 to +70; DatasheetVersion: revB, Nov-2002; PackageVersion: revBB, Aug-2009; PackageReference: SOIC-OA8; PackageDescription: 8-Lead Plastic Small Outline (OA) - Narrow, 3.90mm Body [SOIC]; Code_IPC: SOIC127P600-8; ComponentLink1Description: Manufacturer URL; ComponentLink1URL: http://www.microchip.com/; ComponentLink2Description: Datasheet; ComponentLink2URL: http://ww1.microchip.com/downloads/en/DeviceDoc/21465b.pdf; ComponentLink3Description: Package Specification; ComponentLink3URL: http://www.microchip.com/stellent/groups/techpub_sg/documents/packagingspec/en012702.pdf
footprint SOIC8_N (SOIC, 8-Leads, Body 4.9x3.9mm, Pitch 1.27mm, IPC Medium Density)
footprint SOIC8_M (SOIC, 8-Leads, Body 4.9x3.9mm, Pitch 1.27mm, IPC Low Density)
footprint SOIC8
footprint SOIC8_L (SOIC, 8-Leads, Body 4.9x3.9mm, Pitch 1.27mm, IPC High Density)
pins: 1 SWC "Switch Collector.", 2 SWE "Switch EmitTer", 3 TC "Timing Capacitor", 4 GND (power) "Ground", 5 COMP "Comparator Inverting Input", 6 VCC (power), 7 IPK "Ipk Sense", 8 DRC "Drive Collector"

## MicroSD Card
designator CN?
footprint Micro-SD-Card
pins: 1 DATA2, 2 DATA3(CS), 3 CMD(DI), 4 VDD, 5 CLK(CLK), 6 GND, 7 DAT0(DO), 8 DAT1, 9 CD, 10 GND, 11 GND, 12 GND, 13 GND

## MMBFJ113
designator Q?
N-Channel JFET - 35V, 50mA; Published: 8-Jun-2000; LatestRevisionDate: 17-Jul-2002; LatestRevisionNote: Re-released for DXP Platform.; PackageReference: TO-254-AA; Publisher: Altium Limited; Code_JEDEC: TO-254-AA
footprint SOT23_N
footprint SOT23_M
footprint SOT23_L
pins: 1 D, 2 S, 3 G

## MMBT2222A
designator Q?, comment MMBBT2222A
General Purpose Transistors
footprint SOT23_M
footprint SOT23_L
footprint SOT23_N
pins: 1 BASE, 2 EMITTER, 3 COLLECTOR

## MMBT2222LT1G
designator Q?, comment MMBBT2222LT1G
General Purpose Transistor
footprint SOT23_M
footprint SOT23_L
footprint SOT23_N
pins: 1 BASE, 2 EMITTER, 3 COLLECTOR

## MMBT2907
designator Q?
PNP General-Purpose Amplifier -  0.6A/60V
footprint SOT23_L
footprint SOT23_M
footprint SOT23_N
pins: 1 BASE, 2 EMITTER, 3 COLLECTOR

## MMBT4403
designator Q?
PNP General-Purpose Amplifier -  0.6A/40V
footprint SOT23_L
footprint SOT23_M
footprint SOT23_N
pins: 1 BASE, 2 EMITTER, 3 COLLECTOR

## MMBT5551L
designator Q?
High Voltage Transistors NPN Silicon
footprint SOT23_L
footprint SOT23_M
footprint SOT23_N
pins: 1 BASE, 2 EMITTER, 3 COLLECTOR

## MOC3052SM
designator U?
Triac & SCR Output Optocouplers 600V Optocoupler Random Phase Triac; Designer: Seyed Mohsen Ghasemian; E-mail: picpars@gmail.com; Published: 17-11-2011; LatestRevisionDate: 17-11-2011; Publisher: www.picpars.com; WEB: www.picpars.com
footprint DIP6-SMD
footprint DIP6
pins: 1 ANODE, 2 CATHODE, 4 MAIN TERM, 6 MAIN TERM

## NUP2105L
designator D?
27 V ESD Protection Diode / Dual Line CAN Bus Protector
footprint SOT23_M
footprint SOT23_N
footprint SOT23_L
pins: 1, 2, 3

## OLED 0.96 inch Module
designator U?
footprint OLED 0.96 inch Module
pins: 1 GND, 2 VCC, 3 SCL, 4 SDA, 5 RES, 6 DC

## OLED_SSD1306
designator J?, comment OLED
footprint OLED_SSD1306_0.96INCH (0.96 inch)
footprint OLED_SSD1306_1.3INCH (1.3 inch)
pins: 1 VSS, 2 C2P, 3 C2N, 4 C1P, 5 C1N, 6 VBAT, 7 VSS, 8 VSS, 9 VDD, 10 BS0, 11 BS1, 12 BS2, 13 CS, 14 RES, 15 D/C, 16 R/W, 17 E/RD, 18 D0, 19 D1, 20 D2, 21 D3, 22 D4, 23 D5, 24 D6, 25 D7, 26 IREF, 27 VCOMH, 28 VCC, 29 VSS, 30 VSS

## PESD1CAN
designator D?
CAN bus ESD protection diode
footprint SOT23_M
footprint SOT23_N
footprint SOT23_L
pins: 1, 2, 3

## Phoenix 2 Pin
designator J?
footprint Phoenix 2 Pin 3.81mm
footprint Phoenix 2 Pin 3.81mm R
footprint Phoenix 2 Pin 3.81mm V
footprint Phoenix 2 Pin 5.08mm V
footprint Phoenix 2 Pin 5.08mm R
pins: 1, 2

## Phoenix 3 Pin
designator J?
footprint Phoenix 3 Pin 3.81mm R
footprint Phoenix 3 Pin 3.81mm V
footprint Phoenix 3 Pin 5.08mm R
pins: 1, 2, 3

## Phoenix 4 Pin
designator J?
footprint Phoenix 4 Pin 3.81mm R
footprint Phoenix 4 Pin 3.81mm V
footprint Phoenix 4 Pin 5.08mm R
footprint Phoenix 4 Pin 5.08mm V
pins: 1, 2, 3, 4

## Phoenix 5 Pin
designator J?
footprint Phoenix 5 Pin 3.81mm R
footprint Phoenix 5 Pin 3.81mm V
footprint Phoenix 5 Pin 5.08mm R
pins: 1, 2, 3, 4, 5

## Phoenix 6 Pin
designator J?
footprint Phoenix 6 Pin 3.81mm R
footprint Phoenix 6 Pin 3.81mm V
pins: 1, 2, 3, 4, 5, 6

## Phoenix 7 Pin
designator J?
footprint Phoenix 7 Pin 3.81mm R
footprint Phoenix 7 Pin 3.81mm V
pins: 1, 2, 3, 4, 5, 6, 7

## Phoenix 8 Pin
designator J?
footprint Phoenix 8 Pin 3.81mm R
pins: 1, 2, 3, 4, 5, 6, 7, 8

## Phoenix 9 Pin
designator J?
footprint Phoenix 9 Pin 3.81mm
footprint Phoenix 9 Pin 3.81mm R
footprint Phoenix 9 Pin 3.81mm V
pins: 1, 2, 3, 4, 5, 6, 7, 8, 9

## Phoenix 10 Pin
designator J?
footprint Phoenix 10 Pin 3.81mm R
footprint Phoenix 10 Pin 3.81mm V
pins: 1, 2, 3, 4, 5, 6, 7, 8, 9, 10

## Phoenix 11 Pin
designator J?
footprint Phoenix 11 Pin 3.81mm R
footprint Phoenix 11 Pin 3.81mm V
pins: 1, 2, 3, 4, 5, 6, 7, 8, 9, 10, 11

## Phoenix 12 Pin
designator J?
footprint Phoenix 12 Pin 3.81mm R
footprint Phoenix 12 Pin 3.81mm V
pins: 1, 2, 3, 4, 5, 6, 7, 8, 9, 10, 11, 12

## Phoenix 13 Pin
designator J?
footprint Phoenix 13 Pin 3.81mm V
pins: 1, 2, 3, 4, 5, 6, 7, 8, 9, 10, 11, 12, 13

## Phoenix 14 Pin
designator J?
footprint Phoenix 14 Pin 3.81mm R
footprint Phoenix 14 Pin 3.81mm V
pins: 1, 2, 3, 4, 5, 6, 7, 8, 9, 10, 11, 12, 13, 14

## Phoenix 16 Pin
designator J?
footprint Phoenix 16 Pin 3.81mm V
pins: 1, 2, 3, 4, 5, 6, 7, 8, 9, 10, 11, 12, 13, 14, 15, 16

## PIN_HEADER_4
designator J?
footprint HDR1X4 (Connector; Header; 4 Position)
pins: 1, 2, 3, 4

## POT
designator R?, comment 10K
Value: 10K
footprint POT_TH_S
pins: 1, 2, 3

## PS2-6PIN
designator J?
Connector 6 Pin Through Hole PS2 Socket (Kycon P/N); Published: 17-Dec-2003; Publisher: Altium Limited; ComponentLink1Description: Manufacturer Link; ComponentLink1URL: http://www.oupiin.com/prodindx.html#Headers
footprint PS2-6PIN (PS2 Socket, 6 Pin, Through Hole)
pins: 1, 2, 3, 4, 5, 6, S (in)

## REF02AU
designator U?
Precision Voltage Reference, 5 V Output, 7 to 36 V Supply, Military,; Manufacturer: Analog Devices; PartNumber: REF02AZ; Max V Supply (V): 36; Packing: Tube; Min V Supply (V): 7; Ref Out TC (ppm/C): 3; Vout: 5V; DatasheetVersion: Rev. K; PackageVersion: Aug-05; PackageReference: Q-8; PackageDescription: 8-Pin Ceramic Dual In-Line Package, Row spacing 7.62 mm, Pitch 2.54 mm; Supplier 1: Digi-Key; Supplier Part Number 1: REF02AZ-ND; Supplier 2: Mouser; Supplier Part Number 2: 584-REF02AZ; Operating Temp Range: -55 to 125 degC; Mounting Technology: Through Hole; ComponentLink1Description: Manufacturer URL; ComponentLink1URL: http://www.analog.com/en/index.html; ComponentLink2Description: Datasheet; ComponentLink2URL: http://www.analog.com/static/imported-files/data_sheets/REF01_02_03.pdf; ComponentLink3Description: Package Specification; ComponentLink3URL: http://www.analog.com/static/imported-files/packages/3925655241313314758Q_8.pdf; ComponentLink4Description: URL Link1; ComponentLink4URL: Product URL:http://www.analog.com/en/special-linear-functions/voltage-references/ref02/products/product.html
footprint SOIC8_N (SOIC, 8-Leads, Body 4.9x3.9mm, Pitch 1.27mm, IPC Medium Density)
pins: 1 NC, 2 VIN (power), 3 TEMP (out), 4 GND, 5 TRIM (in), 6 VOUT (power), 7 NC, 8 NC

## REF03GSZ
designator U?
Precision Voltage Reference, 2.5 V Output, 4.5  to 36 V Supply, Military,; Manufacturer: Analog Devices; PartNumber: REF02AZ; Max V Supply (V): 36; Packing: Tube; Min V Supply (V): 7; Ref Out TC (ppm/C): 3; Vout: 5V; DatasheetVersion: Rev. K; PackageVersion: Aug-05; PackageReference: Q-8; PackageDescription: 8-Pin Ceramic Dual In-Line Package, Row spacing 7.62 mm, Pitch 2.54 mm; Supplier 1: Digi-Key; Supplier Part Number 1: REF02AZ-ND; Supplier 2: Mouser; Supplier Part Number 2: 584-REF02AZ; Operating Temp Range: -55 to 125 degC; Mounting Technology: Through Hole; ComponentLink1Description: Manufacturer URL; ComponentLink1URL: http://www.analog.com/en/index.html; ComponentLink2Description: Datasheet; ComponentLink2URL: http://www.analog.com/static/imported-files/data_sheets/REF01_02_03.pdf; ComponentLink3Description: Package Specification; ComponentLink3URL: http://www.analog.com/static/imported-files/packages/3925655241313314758Q_8.pdf; ComponentLink4Description: URL Link1; ComponentLink4URL: Product URL:http://www.analog.com/en/special-linear-functions/voltage-references/ref02/products/product.html
footprint SOIC8_N (SOIC, 8-Leads, Body 4.9x3.9mm, Pitch 1.27mm, IPC Medium Density)
pins: 1 NC, 2 VIN (power), 3 TEMP (out), 4 GND, 5 TRIM (in), 6 VOUT (power), 7 NC, 8 NC

## Resistor_SMD
designator R?, comment 1K
Value: 1K
footprint RES_SMD_0402
footprint RES_SMD_0603
footprint RES_SMD_0805
footprint RES_SMD_1206
footprint RES_SMD_2010
footprint RES_SMD_2512
pins: 1, 2

## RJ11R06P
designator J?
footprint RJ11R06P
pins: 1, 2, 3, 4, 5, 6

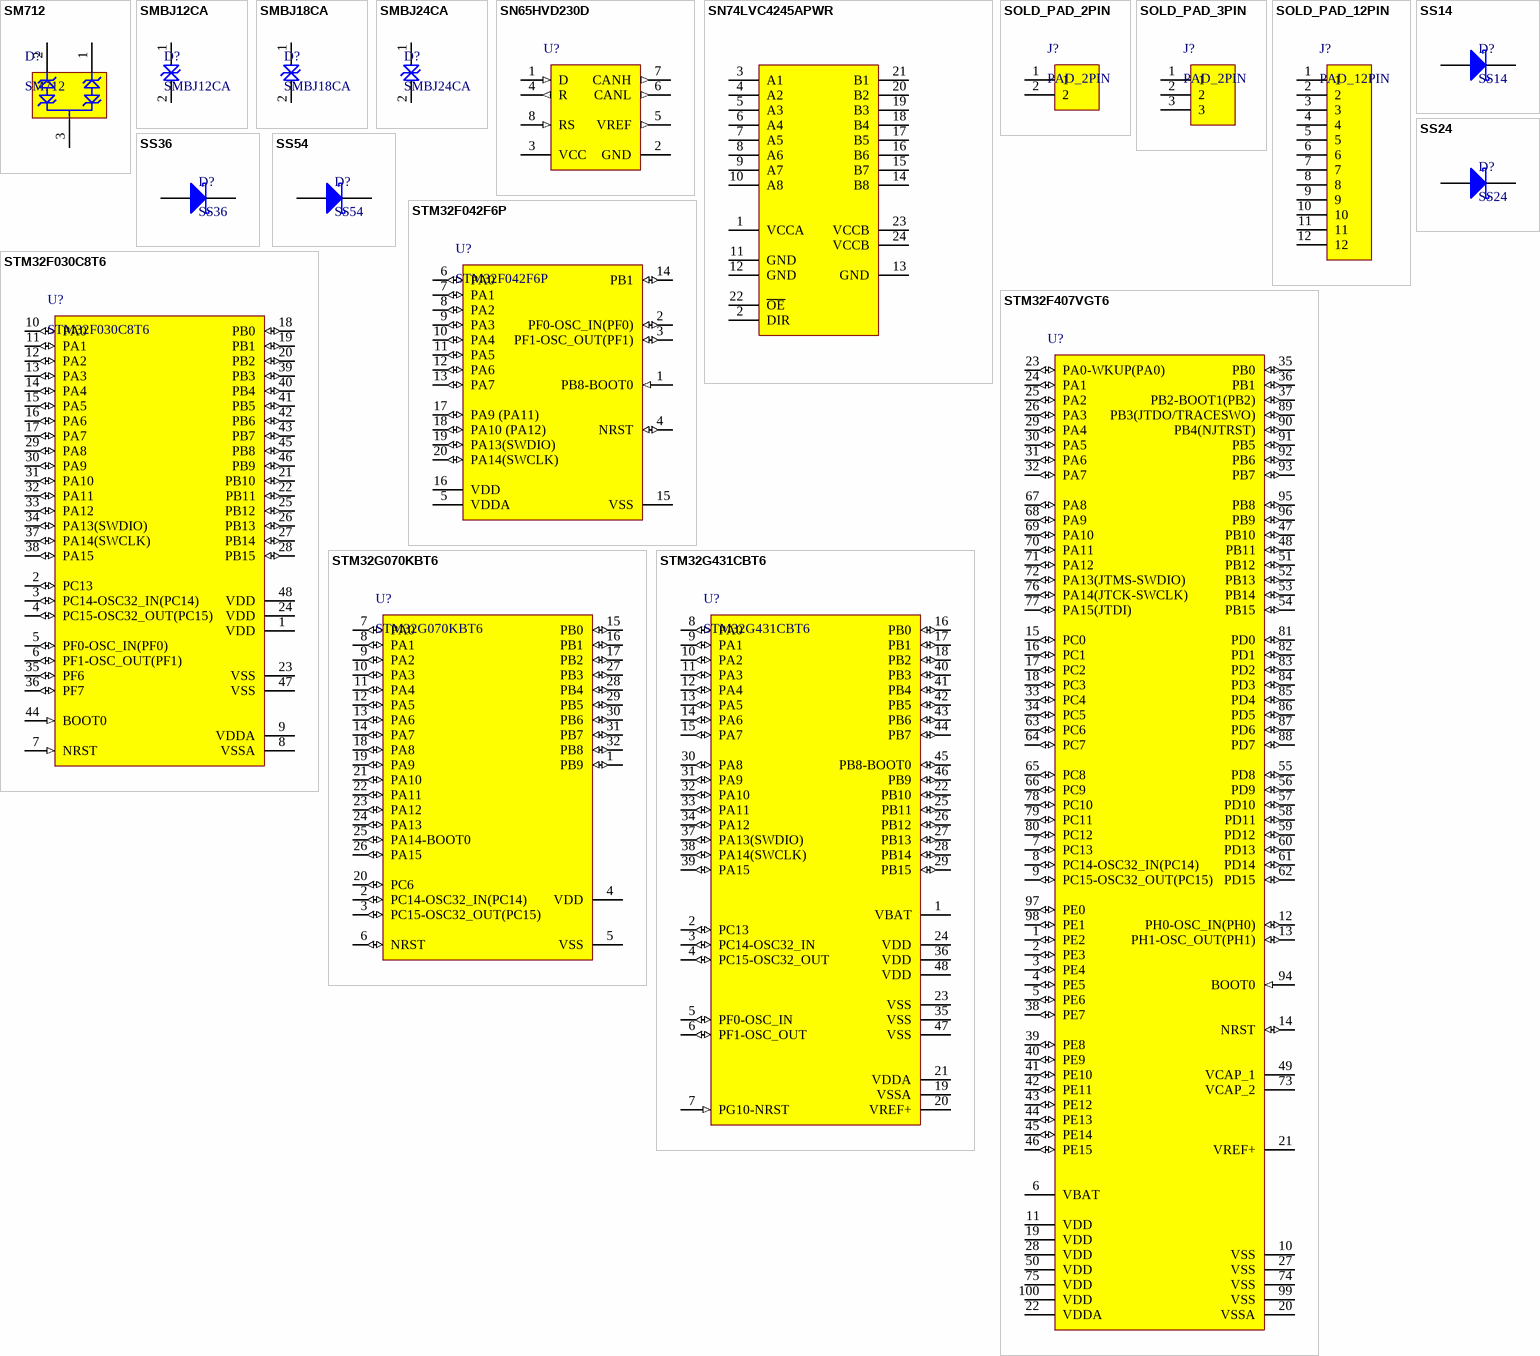
[diagram p4: symbols SM712 to STM32G431CBT6]

## SM712
designator D?
TVS DIODE
footprint SOT23_M
footprint SOT23_N
footprint SOT23_L
pins: 1, 2, 3

## SMBJ12CA
designator D?
12V TVS Diode
footprint DO-214AA(SMA)
pins: 1, 2

## SMBJ18CA
designator D?
18V TVS Diode
footprint DO-214AA(SMA)
pins: 1, 2

## SMBJ24CA
designator D?
24V TVS Diode
footprint DO-214AA(SMA)
pins: 1, 2

## SN65HVD230D
designator U?
3.3V CAN Transceiver with Standby Mode, 17 mA, -40 to 85 degC, 8-pin SOIC (D), Green (RoHS & no Sb/Br); Manufacturer: Texas Instruments; PartNumber: SN65HVD230D; Drivers Per Package: 1; Transient Pulse Protection(V): -25 to 25; ICC(Max)(mA): 17; Supply Voltage(s)(V): 3.3; Rating: Catalog; DatasheetVersion: SLOS346K; PackageVersion: revM, Jun-2011; PackageReference: D8; PackageDescription: 8-Pin Plastic Small Outline Integrated Circuit, 4.9 x 3.9 mm, Pitch 1.27 mm Pitch; Supplier 1: Digi-Key; Supplier Part Number 1: SN65HVD230D-ND; Supplier 2: Farnell; Supplier Part Number 2: 1103105; Supplier 3: Newark; Supplier Part Number 3: 75C7744; Supplier 4: Mouser; Supplier Part Number 4: 595-SN65HVD230D; Eco-Plan: Green (RoHS & no Sb/Br); SubFamily: CAN; Receivers Per Package: 1; Isolated: No; Low Power Mode: Standby; Footprint: PCA82C250; Mounting Technology: Surface Mount; Code_JEDEC: MS-012AA; ComponentLink1Description: Datasheet; ComponentLink1URL: http://www.ti.com/general/docs/lit/getliterature.tsp?genericPartNumber=SN65HVD230&fileType=pdf
footprint SOIC8_L (SOIC, 8-Leads, Body 4.9x3.9mm, Pitch 1.27mm, IPC High Density)
footprint SOIC8_M (SOIC, 8-Leads, Body 4.9x3.9mm, Pitch 1.27mm, IPC Low Density)
footprint SOIC8_N (SOIC, 8-Leads, Body 4.9x3.9mm, Pitch 1.27mm, IPC Medium Density)
pins: 1 D (in) "Driver input", 2 GND (power) "Ground", 3 VCC (power) "Supply voltage", 4 R (out) "Receiver output", 5 VREF (out) "Reference output", 6 CANL (out) "Low bus output", 7 CANH (out) "High bus output", 8 RS (in) "Standby/slope control"

## SN74LVC4245APWR
designator U?
Octal Bus Transceiver and 3.3-V to 5-V Shifter / With 3-State Outputs
footprint TSSOP24
pins: 1 VCCA, 2 DIR, 3 A1, 4 A2, 5 A3, 6 A4, 7 A5, 8 A6, 9 A7, 10 A8, 11 GND, 12 GND, 13 GND, 14 B8, 15 B7, 16 B6, 17 B5, 18 B4, 19 B3, 20 B2, 21 B1, 22 ~{OE}, 23 VCCB, 24 VCCB

## SOLD_PAD_2PIN
designator J?, comment PAD_2PIN
footprint SOLDERING_PAD(2.5)_2PIN_TH (2.5mm Pitch)
footprint SOLD_PAD_2PIN
pins: 1, 2

## SOLD_PAD_3PIN
designator J?, comment PAD_2PIN
footprint SOLD_PAD_3PIN_TH
pins: 1, 2, 3

## SOLD_PAD_12PIN
designator J?, comment PAD_12PIN
footprint SOLD_PAD_12PIN
pins: 1, 2, 3, 4, 5, 6, 7, 8, 9, 10, 11, 12

## SS14
designator D?
Schottky Diode_ 40V_ 1A _=1N5819
footprint DO-214AC(SMA)
pins: 1 A, 2 K

## SS24
designator D?
Surface Mount / Schottky Power Rectifier, 40V_2A, SMB
footprint DO-214AA(SMB)
pins: 1 A, 2 K

## SS36
designator D?
Schottky Diode
footprint DO_214AB(SMC)
pins: 1 A, 2 K

## SS54
designator D?
Schottky Barrier Rectifier_40V_5A
footprint DO_214AB(SMC)
pins: 1 A, 2 K

## STM32F030C8T6
designator U?
ARM Cortex-M0 32-bit MCU, 64 KB Flash, 8 KB Internal RAM, 39 I/Os, 48-pin LQFP, -40 to 85 degC, Tray
footprint LQFP48_L (QFP, 48-Leads, Body 7x7mm, Pitch 0.5mm, IPC High Density)
footprint LQFP48_M (QFP, 48-Leads, Body 7x7mm, Pitch 0.5mm, IPC Low Density)
footprint LQFP48_N (QFP, 48-Leads, Body 7x7mm, Pitch 0.5mm, IPC Medium Density)
pins: 1 VDD (power) "Digital power supply", 2 PC13 (io) "PC13/RTC_TAMP1,RTC_TS,RTC_OUT,WKUP2", 3 PC14-OSC32_IN(PC14) (io) "PC14-OSC32_IN(PC14)/OSC32_IN", 4 PC15-OSC32_OUT(PC15) (io) "PC15-OSC32_OUT(PC15)/OSC32_OUT", 5 PF0-OSC_IN(PF0) (io) "PF0-OSC_IN(PF0)/OSC_IN", 6 PF1-OSC_OUT(PF1) (io) "PF1-OSC_OUT(PF1)/OSC_OUT", 7 NRST (in) "Device reset input / internal reset output (active low)", 8 VSSA (power) "Analog ground", 9 VDDA (power) "Analog power supply", 10 PA0 (io) "PA0/USART2_CTS/ADC_IN0,RTC_TAMP2,WKUP1", 11 PA1 (io) "PA1/USART2_RTS,EVENTOUT/ADC_IN1", 12 PA2 (io) "PA2/USART2_TX,TIM15_CH1/ADC_IN2", 13 PA3 (io) "PA3/USART2_RX,TIM15_CH2/ADC_IN3", 14 PA4 (io) "PA4/SPI1_NSS/USART2_CK,TIM14_CH1/ADC_IN4", 15 PA5 (io) "PA5/SPI1_SCK/ADC_IN5", 16 PA6 (io) "PA6/SPI1_MISO,TIM3_CH1,TIM1_BKIN,TIM16_CH1,EVENTOUT/ADC_IN6", 17 PA7 (io) "PA7/SPI1_MOSI,TIM3_CH2,TIM14_CH1,TIM1_CH1N,TIM17_CH1,EVENTOUT/ADC_IN7", 18 PB0 (io) "PB0/TIM3_CH3,TIM1_CH2N,EVENTOUT/ADC_IN8", 19 PB1 (io) "PB1/TIM3_CH4,TIM14_CH1,TIM1_CH3N/ADC_IN9", 20 PB2 (io), 21 PB10 (io) "PB10/I2C2_SCL", 22 PB11 (io) "PB11/I2C2_SDA,EVENTOUT", 23 VSS (power) "Ground", 24 VDD (power) "Digital power supply", 25 PB12 (io) "PB12/SPI2_NSS,TIM1_BKIN,EVENTOUT", 26 PB13 (io) "PB13/SPI2_SCK,TIM1_CH1N", 27 PB14 (io) "PB14/SPI2_MISO,TIM1_CH2N,TIM15_CH1", 28 PB15 (io) "PB15/SPI2_MOSI,TIM1_CH3N,TIM15_CH1N,TIM15_CH2/RTC_REFIN", 29 PA8 (io) "PA8/USART1_CK,TIM1_CH1,EVENTOUT,MCO", 30 PA9 (io) "PA9/USART1_TX,TIM1_CH2,TIM15_BKIN", 31 PA10 (io) "PA10/USART1_RX,TIM1_CH3,TIM17_BKIN", 32 PA11 (io) "PA11/USART1_CTS,TIM1_CH4,EVENTOUT", 33 PA12 (io) "PA12/USART1_RTS,TIM1_ETR,EVENTOUT", 34 PA13(SWDIO) (io) "PA13(SWDIO)/IR_OUT,SWDIO", 35 PF6 (io) "PF6/I2C2_SCL", 36 PF7 (io) "PF7/I2C2_SDA", 37 PA14(SWCLK) (io) "PA14(SWCLK)/USART2_TX,SWCLK", 38 PA15 (io) "PA15/SPI1_NSS,USART2_RX,EVENTOUT", 39 PB3 (io) "PB3/SPI1_SCK,EVENTOUT", 40 PB4 (io) "PB4/SPI1_MISO,TIM3_CH1,EVENTOUT", 41 PB5 (io) "PB5/SPI1_MOSI,I2C1_SMBA,TIM16_BKIN,TIM3_CH2", 42 PB6 (io) "PB6/I2C1_SCL,USART1_TX,TIM16_CH1N", 43 PB7 (io) "PB7/I2C1_SDA,USART1_RX,TIM17_CH1N", 44 BOOT0 (in) "Boot memory selection", 45 PB8 (io) "PB8/I2C1_SCL,TIM16_CH1", 46 PB9 (io) "PB9/I2C1_SDA,IR_OUT,TIM17_CH1,EVENTOUT", 47 VSS (power) "Ground", 48 VDD (power) "Digital power supply"

## STM32F042F6P
designator U?
ARM Cortex-M0 32-bit MCU, 32 KB Flash, TSSOP, -40 to 85 degC, Tube; PartNumber: STM32F050F6CIR; FLASH Size (Prog) (kB): 32; I/Os (High Current): 15; Internal RAM Size (kB): 4; Operating Frequency(F) (Processor speed) (MHz): 48; Supply Voltage(Vcc) min (V): 2; DatasheetVersion: Rev. 1; PackageVersion: Rev. 1, 11/2012; PackageReference: TSSOP20; PackageDescription: 20-Pin Thin Shrink Small Outline Package, 6.5 x 4.4 mm Body, 0.65 mm Pitch; Supplier 1: Mouser; Supplier Part Number 1: N/A; Core: ARM Cortex-M0; Packing: Tube; Mounting Technology: Surface Mount; ComponentLink1Description: Manufacturer URL; ComponentLink1URL: http://www.st.com/web/en/home.html; ComponentLink2Description: Datasheet; ComponentLink2URL: http://www.st.com/st-web-ui/static/active/en/resource/technical/document/datasheet/DM00065136.pdf; ComponentLink3Description: Package Specification; ComponentLink3URL: http://www.st.com/st-web-ui/static/active/en/resource/technical/document/datasheet/DM00065136.pdf
footprint TSSOP20_L (SOP, 20-Leads, Body 6.6x4.5mm, Pitch 0.65mm, IPC High Density)
footprint TSSOP20_M (SOP, 20-Leads, Body 6.6x4.5mm, Pitch 0.65mm, IPC Low Density)
footprint TSSOP20_N (SOP, 20-Leads, Body 6.6x4.5mm, Pitch 0.65mm, IPC Medium Density)
pins: 1 PB8-BOOT0 (in) "I2C1_SCL, CEC, TIM16_CH1, TSC_SYNC, CAN_RX", 2 PF0-OSC_IN(PF0) (io) "PF0-OSC_IN(PF0)/CRS_ SYNC,I2C1_SDA", 3 PF1-OSC_OUT(PF1) (io) "PF1-OSC_OUT(PF1)/I2C1_SCL", 4 NRST (io) "Device reset input / internal reset output (active low)", 5 VDDA (power) "Analog power supply", 6 PA0 (io) "PA0/TIM2_CH1_ETR,USART2_CTS/TSC_G1_IO1", 7 PA1 (io) "PA1/TIM2_CH2,EVENTOUT,USART2_RTS/TSC_G1_IO2,", 8 PA2 (io) "PA2/TIM2_CH3,USART2_TX/TSC_G1_IO3", 9 PA3 (io) "PA3/TIM2_CH4,USART2_RX/TSC_G1_IO4", 10 PA4 (io) "PA4/SPI1_NSS,I2S1_WS,TIM14_CH1,USART1_CK/TSC_G2_IO1/USB_NOE", 11 PA5 (io) "PA5/SPI1_SCK,I2S1_CK,TIM2_CH1_ETR/TSC_G2_IO2", 12 PA6 (io) "PA6/SPI1_MISO,I2S1_MCK,TIM3_CH1,TIM1_BKIN,TIM16_CH1,EVENTOUT/TSC_G2_IO3", 13 PA7 (io) "PA7/SPI1_MOSI,I2S1_SD,TIM3_CH2,TIM14_CH1,TIM1_CH1N,TIM17_CH1,EVENTOUT/TSC_G2_IO4", 14 PB1 (io) "PB1/TIM3_CH4, TIM14_CH1, TIM1_CH3N, TSC_G3_IO3", 15 VSS (power) "Ground", 16 VDD (power) "Digital power supply", 17 PA9 (PA11) (io) "PA9/USART1_TX,TIM1_CH2,I2C1_SCL/TSC_G4_IO1,", 18 PA10 (PA12) (io) "PA10/USART1_RX,TIM1_CH3,TIM17_BKIN,I2C1_SDA/TSC_G4_IO2", 19 PA13(SWDIO) (io) "PA13(SWDIO)/IR_OUT,SWDIO/USB_NOE", 20 PA14(SWCLK) (io) "PA14(SWCLK)/SWCLK,USART2_TX"